# Altium schematic symbol library TI Power Management DC-DC Controller (External Switch).SchLib: 349 symbols (part 17 of 26)
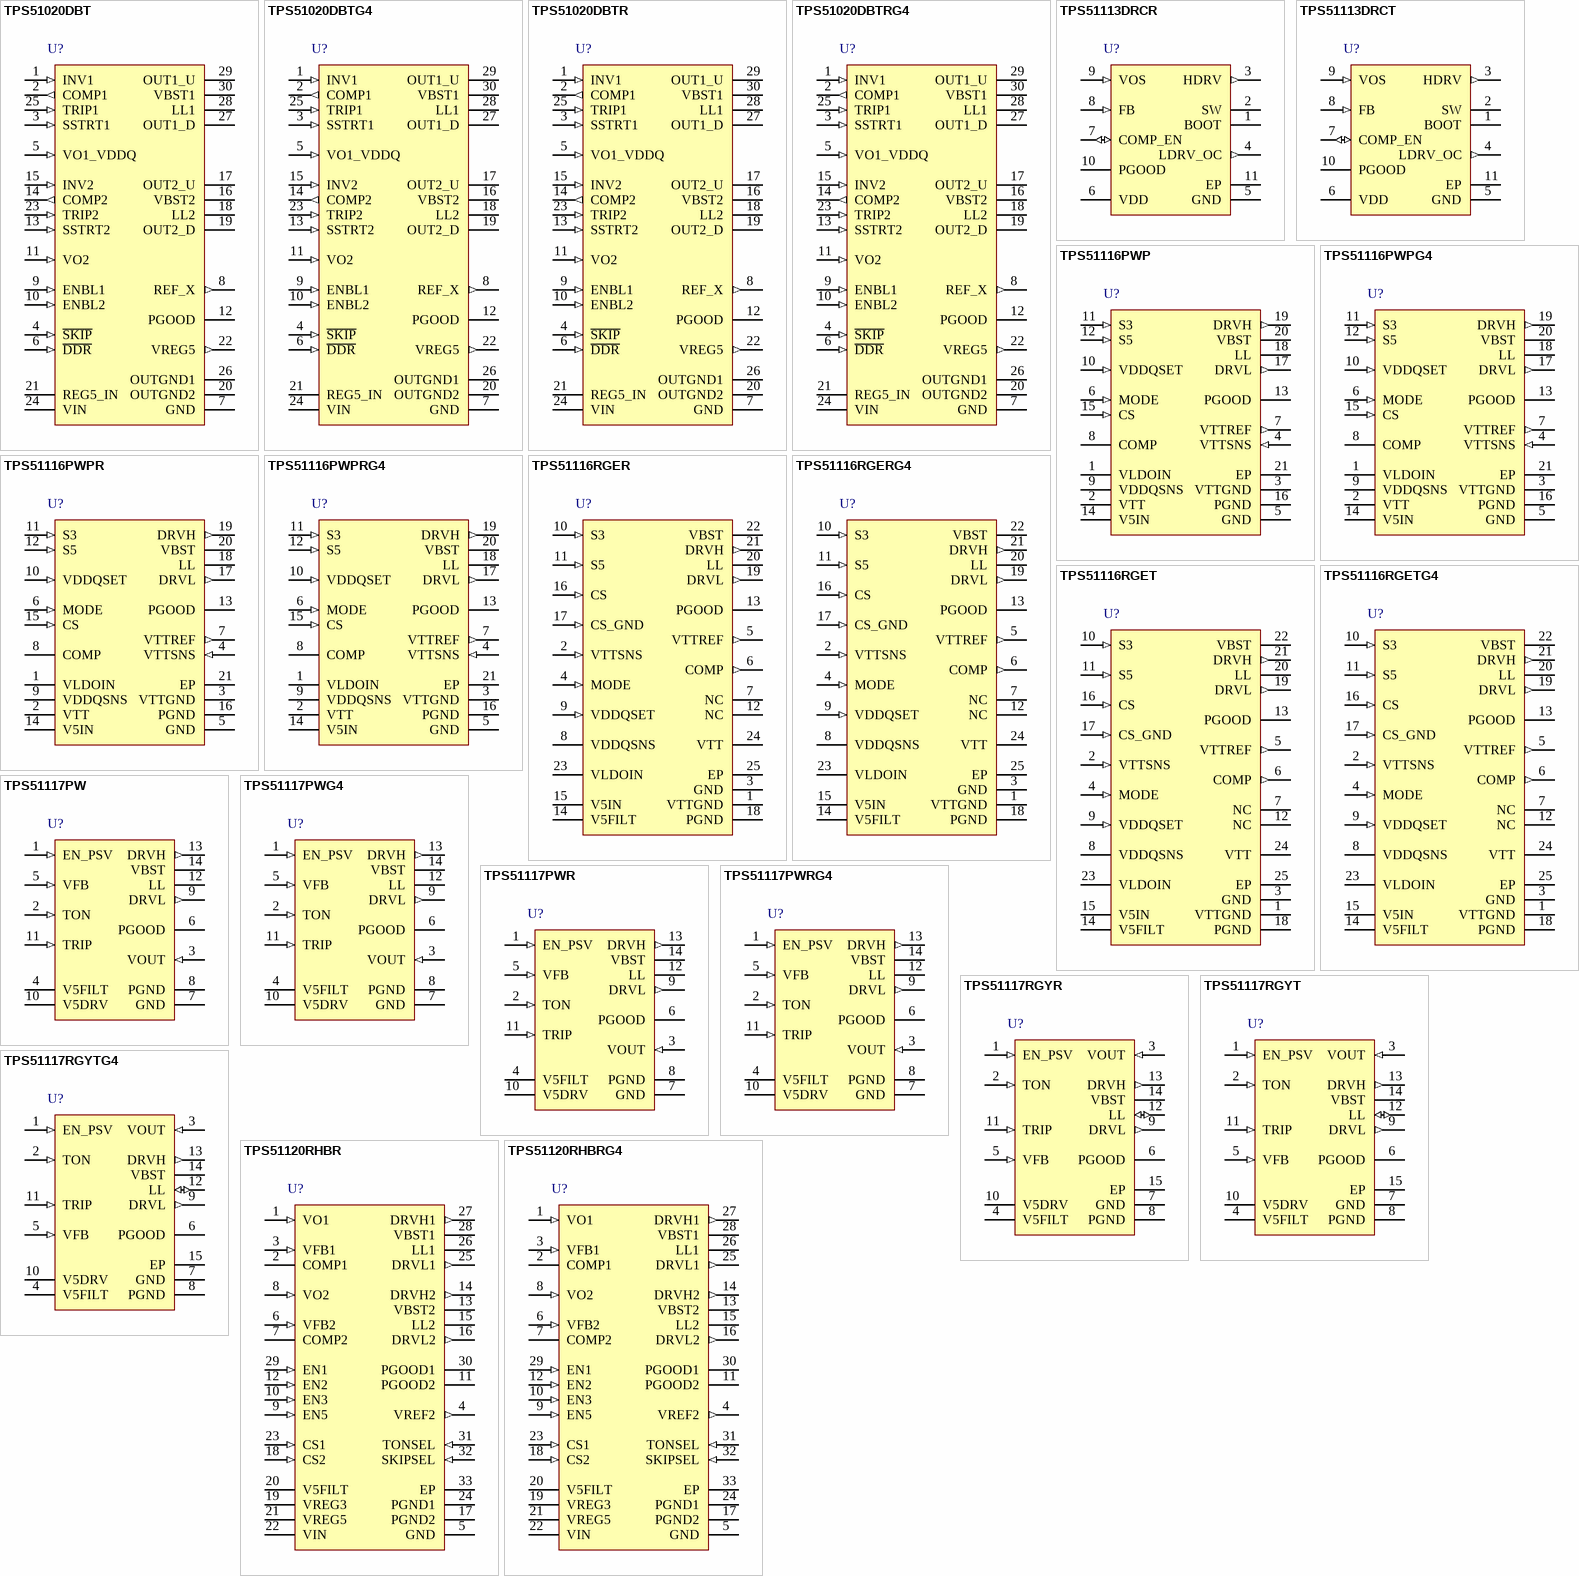
[diagram p30: symbols TPS51020DBT to TPS51120RHBRG4]

## TPS51117PWG4
designator U?
1.8 to 28 V Input Synchronous Step Down Controller with DCAP™ Mode, Optimized for Light Load Efficiency, 95 % Duty Cycle (Max), -40 to 85 degC, 14-pin TSSOP (PW), Green (RoHS & no Sb/Br); Manufacturer: Texas Instruments; PartNumber: TPS51117PWG4; Duty Cycle(Max)(%): 95; Iout(Max)(A): 10; Regulated Outputs(#): 1; SubFamily: Multiple-Output Switching Controller; Switching Frequency(Max)(kHz): 550; Synchronous Rectification: TRUE; Topology: Buck, D-CAP Mode"; Vin(Max)(V): 28; Vin(Min)(V): 1.8; Vout(Max)(V): 5.5; Vout(Min)(V): 0.76; DatasheetVersion: SLVS631B; PackageVersion: revG, Feb-2011; PackageReference: PW14; PackageDescription: 14-Pin Thin Small Outline Package 0.65 mm Pitch; Supplier 1: Digi-Key; Supplier Part Number 1: TPS51117PWG4-ND; Eco-Plan: Green (RoHS & no Sb/Br); Mounting Technology: Surface Mount; Code_JEDEC: MO-153; ComponentLink1Description: Datasheet; ComponentLink1URL: http://www.ti.com/general/docs/lit/getliterature.tsp?genericPartNumber=TPS51117&fileType=pdf; ComponentLink2Description: Package Specification; ComponentLink2URL: http://www.ti.com/litv/pdf/mpds177g
footprint PW14_N (TSOP, 14-Leads, Body 5x4.4mm, Pitch 0.65mm, IPC Medium Density)
footprint PW14_L (TSOP, 14-Leads, Body 5x4.4mm, Pitch 0.65mm, IPC High Density)
footprint PW14_M (TSOP, 14-Leads, Body 5x4.4mm, Pitch 0.65mm, IPC Low Density)
pins: 1 EN_PSV (in) "Enable/power save pin. Connect to ground to disable SMPS. Connect to 3.3 V or 5 V to turn on SMPS andactivate skip mode. Float to turn on SMPS but disable skip mode (forced continuous conduction mode).", 2 TON (in) "On-time / frequency adjustment pin. Connect to LL with 100-k ohm to 600-k ohm resistor.", 3 VOUT (in) "Connect to SMPS output. This terminal serves two functions: output voltage monitor for on-time adjustment, and input for the output discharge switch.", 4 V5FILT (power) "5-V Power supply input for all the control circuitry except gate drivers. Supply 5-V ramp rate should be 17 mV/us or less and Tj < 85degreesC to secure safe start-up of the internal reference circuit. Apply RC filter (See Datasheet)", 5 VFB (in) "SMPS voltage feedback input. Connect the resistor divider here for adjustable output.", 6 PGOOD (oc) "Power-good window comparator, open-drain, output. Pull up to 5-V rail with a pull-up resistor. Current capability is 7.5 mA.", 7 GND (power) "Signal ground pin.", 8 PGND (power) "Ground return for rectifying NFET gate driver. Also cathode of overcurrent protection and source node of the output discharge switch.", 9 DRVL (out) "Rectifying (low-side) NFET gate driver output. Source 5 ohm, sink 1.5 ohm PGND referenced driver. Drive voltage is V5DRV voltage.", 10 V5DRV (power) "5-V Power supply input for FET gate drivers. Internally connected to VBST by a PN diode. Connect 1 uF or more between this pin and PGND to support instantaneous current for gate drivers.", 11 TRIP (in) "Overcurrent trip point set input. Connect resistor from this pin to signal ground to set threshold for both overcurrent and negative overcurrent limit.", 12 LL (power) "High-side NFET gate driver return. Also serves as anode of overcurrent comparator.", 13 DRVH (out) "High-side NFET gate driver output. Source 5 ohm, sink 1.5 ohm LL-node referenced driver. Drive voltage corresponds to VBST to LL voltage.", 14 VBST (power) "Supply input for high-side NFET gate driver (boost terminal). Connect capacitor from this pin to LL-node. An internal PN diode is connected between V5DRV to this pin. Designer can add external schottky diode if forward drop (See Datasheet)"

## TPS51117PWR
designator U?
1.8 to 28 V Input Synchronous Step Down Controller with DCAP™ Mode, Optimized for Light Load Efficiency, 95 % Duty Cycle (Max), -40 to 85 degC, 14-pin TSSOP (PW), Green (RoHS & no Sb/Br); Manufacturer: Texas Instruments; PartNumber: TPS51117PWR; Duty Cycle(Max)(%): 95; Iout(Max)(A): 10; Regulated Outputs(#): 1; SubFamily: Multiple-Output Switching Controller; Switching Frequency(Max)(kHz): 550; Synchronous Rectification: TRUE; Topology: Buck, D-CAP Mode"; Vin(Max)(V): 28; Vin(Min)(V): 1.8; Vout(Max)(V): 5.5; Vout(Min)(V): 0.76; DatasheetVersion: SLVS631B; PackageVersion: revG, Feb-2011; PackageReference: PW14; PackageDescription: 14-Pin Thin Small Outline Package 0.65 mm Pitch; Supplier 1: Digi-Key; Supplier Part Number 1: 296-26974-2-ND; Eco-Plan: Green (RoHS & no Sb/Br); Mounting Technology: Surface Mount; Code_JEDEC: MO-153; ComponentLink1Description: Datasheet; ComponentLink1URL: http://www.ti.com/general/docs/lit/getliterature.tsp?genericPartNumber=TPS51117&fileType=pdf; ComponentLink2Description: Package Specification; ComponentLink2URL: http://www.ti.com/litv/pdf/mpds177g
footprint PW14_N (TSOP, 14-Leads, Body 5x4.4mm, Pitch 0.65mm, IPC Medium Density)
footprint PW14_L (TSOP, 14-Leads, Body 5x4.4mm, Pitch 0.65mm, IPC High Density)
footprint PW14_M (TSOP, 14-Leads, Body 5x4.4mm, Pitch 0.65mm, IPC Low Density)
pins: 1 EN_PSV (in) "Enable/power save pin. Connect to ground to disable SMPS. Connect to 3.3 V or 5 V to turn on SMPS andactivate skip mode. Float to turn on SMPS but disable skip mode (forced continuous conduction mode).", 2 TON (in) "On-time / frequency adjustment pin. Connect to LL with 100-k ohm to 600-k ohm resistor.", 3 VOUT (in) "Connect to SMPS output. This terminal serves two functions: output voltage monitor for on-time adjustment, and input for the output discharge switch.", 4 V5FILT (power) "5-V Power supply input for all the control circuitry except gate drivers. Supply 5-V ramp rate should be 17 mV/us or less and Tj < 85degreesC to secure safe start-up of the internal reference circuit. Apply RC filter (See Datasheet)", 5 VFB (in) "SMPS voltage feedback input. Connect the resistor divider here for adjustable output.", 6 PGOOD (oc) "Power-good window comparator, open-drain, output. Pull up to 5-V rail with a pull-up resistor. Current capability is 7.5 mA.", 7 GND (power) "Signal ground pin.", 8 PGND (power) "Ground return for rectifying NFET gate driver. Also cathode of overcurrent protection and source node of the output discharge switch.", 9 DRVL (out) "Rectifying (low-side) NFET gate driver output. Source 5 ohm, sink 1.5 ohm PGND referenced driver. Drive voltage is V5DRV voltage.", 10 V5DRV (power) "5-V Power supply input for FET gate drivers. Internally connected to VBST by a PN diode. Connect 1 uF or more between this pin and PGND to support instantaneous current for gate drivers.", 11 TRIP (in) "Overcurrent trip point set input. Connect resistor from this pin to signal ground to set threshold for both overcurrent and negative overcurrent limit.", 12 LL (power) "High-side NFET gate driver return. Also serves as anode of overcurrent comparator.", 13 DRVH (out) "High-side NFET gate driver output. Source 5 ohm, sink 1.5 ohm LL-node referenced driver. Drive voltage corresponds to VBST to LL voltage.", 14 VBST (power) "Supply input for high-side NFET gate driver (boost terminal). Connect capacitor from this pin to LL-node. An internal PN diode is connected between V5DRV to this pin. Designer can add external schottky diode if forward drop (See Datasheet)"

## TPS51117PWRG4
designator U?
1.8 to 28 V Input Synchronous Step Down Controller with DCAP™ Mode, Optimized for Light Load Efficiency, 95 % Duty Cycle (Max), -40 to 85 degC, 14-pin TSSOP (PW), Green (RoHS & no Sb/Br); Manufacturer: Texas Instruments; PartNumber: TPS51117PWRG4; Duty Cycle(Max)(%): 95; Iout(Max)(A): 10; Regulated Outputs(#): 1; SubFamily: Multiple-Output Switching Controller; Switching Frequency(Max)(kHz): 550; Synchronous Rectification: TRUE; Topology: Buck, D-CAP Mode"; Vin(Max)(V): 28; Vin(Min)(V): 1.8; Vout(Max)(V): 5.5; Vout(Min)(V): 0.76; DatasheetVersion: SLVS631B; PackageVersion: revG, Feb-2011; PackageReference: PW14; PackageDescription: 14-Pin Thin Small Outline Package 0.65 mm Pitch; Supplier 1: Digi-Key; Supplier Part Number 1: TPS51117PWRG4-ND; Eco-Plan: Green (RoHS & no Sb/Br); Mounting Technology: Surface Mount; Code_JEDEC: MO-153; ComponentLink1Description: Datasheet; ComponentLink1URL: http://www.ti.com/general/docs/lit/getliterature.tsp?genericPartNumber=TPS51117&fileType=pdf; ComponentLink2Description: Package Specification; ComponentLink2URL: http://www.ti.com/litv/pdf/mpds177g
footprint PW14_N (TSOP, 14-Leads, Body 5x4.4mm, Pitch 0.65mm, IPC Medium Density)
footprint PW14_L (TSOP, 14-Leads, Body 5x4.4mm, Pitch 0.65mm, IPC High Density)
footprint PW14_M (TSOP, 14-Leads, Body 5x4.4mm, Pitch 0.65mm, IPC Low Density)
pins: 1 EN_PSV (in) "Enable/power save pin. Connect to ground to disable SMPS. Connect to 3.3 V or 5 V to turn on SMPS andactivate skip mode. Float to turn on SMPS but disable skip mode (forced continuous conduction mode).", 2 TON (in) "On-time / frequency adjustment pin. Connect to LL with 100-k ohm to 600-k ohm resistor.", 3 VOUT (in) "Connect to SMPS output. This terminal serves two functions: output voltage monitor for on-time adjustment, and input for the output discharge switch.", 4 V5FILT (power) "5-V Power supply input for all the control circuitry except gate drivers. Supply 5-V ramp rate should be 17 mV/us or less and Tj < 85degreesC to secure safe start-up of the internal reference circuit. Apply RC filter (See Datasheet)", 5 VFB (in) "SMPS voltage feedback input. Connect the resistor divider here for adjustable output.", 6 PGOOD (oc) "Power-good window comparator, open-drain, output. Pull up to 5-V rail with a pull-up resistor. Current capability is 7.5 mA.", 7 GND (power) "Signal ground pin.", 8 PGND (power) "Ground return for rectifying NFET gate driver. Also cathode of overcurrent protection and source node of the output discharge switch.", 9 DRVL (out) "Rectifying (low-side) NFET gate driver output. Source 5 ohm, sink 1.5 ohm PGND referenced driver. Drive voltage is V5DRV voltage.", 10 V5DRV (power) "5-V Power supply input for FET gate drivers. Internally connected to VBST by a PN diode. Connect 1 uF or more between this pin and PGND to support instantaneous current for gate drivers.", 11 TRIP (in) "Overcurrent trip point set input. Connect resistor from this pin to signal ground to set threshold for both overcurrent and negative overcurrent limit.", 12 LL (power) "High-side NFET gate driver return. Also serves as anode of overcurrent comparator.", 13 DRVH (out) "High-side NFET gate driver output. Source 5 ohm, sink 1.5 ohm LL-node referenced driver. Drive voltage corresponds to VBST to LL voltage.", 14 VBST (power) "Supply input for high-side NFET gate driver (boost terminal). Connect capacitor from this pin to LL-node. An internal PN diode is connected between V5DRV to this pin. Designer can add external schottky diode if forward drop (See Datasheet)"

## TPS51117RGYR
designator U?
1.8 to 28 V Input Synchronous Step Down Controller with DCAP™ Mode, Optimized for Light Load Efficiency, 95 % Duty Cycle (Max), -40 to 85 degC, 14-pin VQFN (RGY), Green (RoHS & no Sb/Br); Manufacturer: Texas Instruments; PartNumber: TPS51117RGYR; Duty Cycle(Max)(%): 95; Iout(Max)(A): 10; Regulated Outputs(#): 1; SubFamily: Multiple-Output Switching Controller; Switching Frequency(Max)(kHz): 550; Synchronous Rectification: TRUE; Topology: Buck, D-CAP Mode"; Vin(Max)(V): 28; Vin(Min)(V): 1.8; Vout(Max)(V): 5.5; Vout(Min)(V): 0.76; DatasheetVersion: SLVS631B; PackageVersion: revI, Jun-2011; PackageReference: RGY14-2050X2050TP; PackageDescription: 14-Leads Plastic Quad Flatpack No-Lead, 3.5 x 3.5 x 0.9 mm Body, 0.5 mm Pitch; Supplier 1: Digi-Key; Supplier Part Number 1: 296-19889-2-ND; Eco-Plan: Green (RoHS & no Sb/Br); Mounting Technology: Surface Mount; Code_JEDEC: MO-241-BA; ComponentLink1Description: Datasheet; ComponentLink1URL: http://www.ti.com/general/docs/lit/getliterature.tsp?genericPartNumber=TPS51117&fileType=pdf; ComponentLink2Description: Package Specification; ComponentLink2URL: http://www.ti.com/litv/pdf/mpds177g
footprint RGY14-2050X2050TP (QFN, 14-Leads, Body 3.5x3.5mm, Pitch 0.5mm, Thermal Pad 2.05x2.05mm, TI Recommended)
pins: 1 EN_PSV (in) "Enable/power save pin. Connect to ground to disable SMPS. Connect to 3.3 V or 5 V to turn on SMPS and activate skip mode. Float to turn on SMPS but disable skip mode (forced continuous conduction mode).", 2 TON (in) "On-time / frequency adjustment pin. Connect to LL with 100-k ohm to 600-k ohm resistor.", 3 VOUT (in) "Connect to SMPS output. This terminal serves two functions: output voltage monitor for on-time adjustment, and input for the output discharge switch.", 4 V5FILT (power) "5-V Power supply input for all the control circuitry except gate drivers. Supply 5-V ramp rate should be 17 mV/us or less and Tj < 85degreesC to secure safe start-up of the internal reference circuit. Apply RC filter (See Datasheet)", 5 VFB (in) "SMPS voltage feedback input. Connect the resistor divider here for adjustable output.", 6 PGOOD (oc) "Power-good window comparator, open-drain, output. Pull up to 5-V rail with a pull-up resistor. Current capability is 7.5 mA.", 7 GND (power) "Signal ground pin.", 8 PGND (power) "Ground return for rectifying NFET gate driver. Also cathode of overcurrent protection and source node of the output discharge switch.", 9 DRVL (out) "Rectifying (low-side) NFET gate driver output. Source 5 ohm, sink 1.5 ohm PGND referenced driver. Drive voltage is V5DRV voltage.", 10 V5DRV (power) "5-V Power supply input for FET gate drivers. Internally connected to VBST by a PN diode. Connect 1 uF or more between this pin and PGND to support instantaneous current for gate drivers.", 11 TRIP (in) "Overcurrent trip point set input. Connect resistor from this pin to signal ground to set threshold for both overcurrent and negative overcurrent limit.", 12 LL (io) "High-side NFET gate driver return. Also serves as anode of overcurrent comparator.", 13 DRVH (out) "High-side NFET gate driver output. Source 5 ohm, sink 1.5 ohm LL-node referenced driver. Drive voltage corresponds to VBST to LL voltage.", 14 VBST (power) "Supply input for high-side NFET gate driver (boost terminal). Connect capacitor from this pin to LL-node. An internal PN diode is connected between V5DRV to this pin. Designer can add external schottky diode if forward drop (See Datasheet)", 15 EP "Exposed Thermal Pad."

## TPS51117RGYT
designator U?
1.8 to 28 V Input Synchronous Step Down Controller with DCAP™ Mode, Optimized for Light Load Efficiency, 95 % Duty Cycle (Max), -40 to 85 degC, 14-pin VQFN (RGY), Green (RoHS & no Sb/Br); Manufacturer: Texas Instruments; PartNumber: TPS51117RGYT; Duty Cycle(Max)(%): 95; Iout(Max)(A): 10; Regulated Outputs(#): 1; SubFamily: Multiple-Output Switching Controller; Switching Frequency(Max)(kHz): 550; Synchronous Rectification: TRUE; Topology: Buck, D-CAP Mode"; Vin(Max)(V): 28; Vin(Min)(V): 1.8; Vout(Max)(V): 5.5; Vout(Min)(V): 0.76; DatasheetVersion: SLVS631B; PackageVersion: revI, Jun-2011; PackageReference: RGY14-2050X2050TP; PackageDescription: 14-Leads Plastic Quad Flatpack No-Lead, 3.5 x 3.5 x 0.9 mm Body, 0.5 mm Pitch; Supplier 1: Digi-Key; Supplier Part Number 1: TPS51117RGYT-ND; Eco-Plan: Green (RoHS & no Sb/Br); Mounting Technology: Surface Mount; Code_JEDEC: MO-241-BA; ComponentLink1Description: Datasheet; ComponentLink1URL: http://www.ti.com/general/docs/lit/getliterature.tsp?genericPartNumber=TPS51117&fileType=pdf; ComponentLink2Description: Package Specification; ComponentLink2URL: http://www.ti.com/litv/pdf/mpds177g
footprint RGY14-2050X2050TP (QFN, 14-Leads, Body 3.5x3.5mm, Pitch 0.5mm, Thermal Pad 2.05x2.05mm, TI Recommended)
pins: 1 EN_PSV (in) "Enable/power save pin. Connect to ground to disable SMPS. Connect to 3.3 V or 5 V to turn on SMPS and activate skip mode. Float to turn on SMPS but disable skip mode (forced continuous conduction mode).", 2 TON (in) "On-time / frequency adjustment pin. Connect to LL with 100-k ohm to 600-k ohm resistor.", 3 VOUT (in) "Connect to SMPS output. This terminal serves two functions: output voltage monitor for on-time adjustment, and input for the output discharge switch.", 4 V5FILT (power) "5-V Power supply input for all the control circuitry except gate drivers. Supply 5-V ramp rate should be 17 mV/us or less and Tj < 85degreesC to secure safe start-up of the internal reference circuit. Apply RC filter (See Datasheet)", 5 VFB (in) "SMPS voltage feedback input. Connect the resistor divider here for adjustable output.", 6 PGOOD (oc) "Power-good window comparator, open-drain, output. Pull up to 5-V rail with a pull-up resistor. Current capability is 7.5 mA.", 7 GND (power) "Signal ground pin.", 8 PGND (power) "Ground return for rectifying NFET gate driver. Also cathode of overcurrent protection and source node of the output discharge switch.", 9 DRVL (out) "Rectifying (low-side) NFET gate driver output. Source 5 ohm, sink 1.5 ohm PGND referenced driver. Drive voltage is V5DRV voltage.", 10 V5DRV (power) "5-V Power supply input for FET gate drivers. Internally connected to VBST by a PN diode. Connect 1 uF or more between this pin and PGND to support instantaneous current for gate drivers.", 11 TRIP (in) "Overcurrent trip point set input. Connect resistor from this pin to signal ground to set threshold for both overcurrent and negative overcurrent limit.", 12 LL (io) "High-side NFET gate driver return. Also serves as anode of overcurrent comparator.", 13 DRVH (out) "High-side NFET gate driver output. Source 5 ohm, sink 1.5 ohm LL-node referenced driver. Drive voltage corresponds to VBST to LL voltage.", 14 VBST (power) "Supply input for high-side NFET gate driver (boost terminal). Connect capacitor from this pin to LL-node. An internal PN diode is connected between V5DRV to this pin. Designer can add external schottky diode if forward drop (See Datasheet)", 15 EP "Exposed Thermal Pad."

## TPS51117RGYTG4
designator U?
1.8 to 28 V Input Synchronous Step Down Controller with DCAP™ Mode, Optimized for Light Load Efficiency, 95 % Duty Cycle (Max), -40 to 85 degC, 14-pin VQFN (RGY), Green (RoHS & no Sb/Br); Manufacturer: Texas Instruments; PartNumber: TPS51117RGYTG4; Duty Cycle(Max)(%): 95; Iout(Max)(A): 10; Regulated Outputs(#): 1; SubFamily: Multiple-Output Switching Controller; Switching Frequency(Max)(kHz): 550; Synchronous Rectification: TRUE; Topology: Buck, D-CAP Mode"; Vin(Max)(V): 28; Vin(Min)(V): 1.8; Vout(Max)(V): 5.5; Vout(Min)(V): 0.76; DatasheetVersion: SLVS631B; PackageVersion: revI, Jun-2011; PackageReference: RGY14-2050X2050TP; PackageDescription: 14-Leads Plastic Quad Flatpack No-Lead, 3.5 x 3.5 x 0.9 mm Body, 0.5 mm Pitch; Supplier 1: Digi-Key; Supplier Part Number 1: TPS51117RGYTG4-ND; Eco-Plan: Green (RoHS & no Sb/Br); Mounting Technology: Surface Mount; Code_JEDEC: MO-241-BA; ComponentLink1Description: Datasheet; ComponentLink1URL: http://www.ti.com/general/docs/lit/getliterature.tsp?genericPartNumber=TPS51117&fileType=pdf; ComponentLink2Description: Package Specification; ComponentLink2URL: http://www.ti.com/litv/pdf/mpds177g
footprint RGY14-2050X2050TP (QFN, 14-Leads, Body 3.5x3.5mm, Pitch 0.5mm, Thermal Pad 2.05x2.05mm, TI Recommended)
pins: 1 EN_PSV (in) "Enable/power save pin. Connect to ground to disable SMPS. Connect to 3.3 V or 5 V to turn on SMPS and activate skip mode. Float to turn on SMPS but disable skip mode (forced continuous conduction mode).", 2 TON (in) "On-time / frequency adjustment pin. Connect to LL with 100-k ohm to 600-k ohm resistor.", 3 VOUT (in) "Connect to SMPS output. This terminal serves two functions: output voltage monitor for on-time adjustment, and input for the output discharge switch.", 4 V5FILT (power) "5-V Power supply input for all the control circuitry except gate drivers. Supply 5-V ramp rate should be 17 mV/us or less and Tj < 85degreesC to secure safe start-up of the internal reference circuit. Apply RC filter (See Datasheet)", 5 VFB (in) "SMPS voltage feedback input. Connect the resistor divider here for adjustable output.", 6 PGOOD (oc) "Power-good window comparator, open-drain, output. Pull up to 5-V rail with a pull-up resistor. Current capability is 7.5 mA.", 7 GND (power) "Signal ground pin.", 8 PGND (power) "Ground return for rectifying NFET gate driver. Also cathode of overcurrent protection and source node of the output discharge switch.", 9 DRVL (out) "Rectifying (low-side) NFET gate driver output. Source 5 ohm, sink 1.5 ohm PGND referenced driver. Drive voltage is V5DRV voltage.", 10 V5DRV (power) "5-V Power supply input for FET gate drivers. Internally connected to VBST by a PN diode. Connect 1 uF or more between this pin and PGND to support instantaneous current for gate drivers.", 11 TRIP (in) "Overcurrent trip point set input. Connect resistor from this pin to signal ground to set threshold for both overcurrent and negative overcurrent limit.", 12 LL (io) "High-side NFET gate driver return. Also serves as anode of overcurrent comparator.", 13 DRVH (out) "High-side NFET gate driver output. Source 5 ohm, sink 1.5 ohm LL-node referenced driver. Drive voltage corresponds to VBST to LL voltage.", 14 VBST (power) "Supply input for high-side NFET gate driver (boost terminal). Connect capacitor from this pin to LL-node. An internal PN diode is connected between V5DRV to this pin. Designer can add external schottky diode if forward drop (See Datasheet)", 15 EP "Exposed Thermal Pad."

## TPS51120RHBR
designator U?
Dual Current Mode, Synch Step-Down Controller with 100 mA Standby Reg for Notebook System Power, 88 % Duty Cycle, 4.5 to 28 V, -40 to 85 degC, 32-pin QFN (RHB), Green (RoHS & no Sb/Br); Manufacturer: Texas Instruments; PartNumber: TPS51120RHBR; Duty Cycle(Max)(%): 88; Iout(Max)(A): 20; Regulated Outputs(#): 2; SubFamily: Multiple-Output Switching Controller; Switching Frequency(Max)(kHz): 580; Synchronous Rectification: TRUE; Topology: Buck, D-CAP Mode"; Vin(Max)(V): 28; Vin(Min)(V): 4.5; Vout(Max)(V): 5.5; Vout(Min)(V): 1.05; DatasheetVersion: SLUS670B; PackageVersion: revD, Jun-2011; PackageReference: RHB32-3450X3450TP; PackageDescription: 32-Pin Plastic Quad Flat No-Lead, 5 x 5 mm Body, 0.5 mm Pitch, 3.45 x 3.45 mm Exposed Pad; Supplier 1: Digi-Key; Supplier Part Number 1: 296-26975-2-ND; Eco-Plan: Green (RoHS & no Sb/Br); Iout2(A): 20; Vout2(Max)(V): 5.5; Vout2(Min)(V): 1.05; Mounting Technology: Surface Mount; Code_JEDEC: MO-220; ComponentLink1Description: Datasheet; ComponentLink1URL: http://www.ti.com/general/docs/lit/getliterature.tsp?genericPartNumber=TPS51120&fileType=pdf; ComponentLink2Description: Package Specification; ComponentLink2URL: http://www.ti.com/litv/pdf/mpqf130c
footprint RHB32-3450X3450TP (QFN, 32-Leads, Body 5x5mm, Pitch 0.5mm, Thermal Pad 3.45x3.45mm, TI Recommended)
pins: 1 VO1 (in) "These terminals serve four functions: on-time adjustment, output discharge, VREG5, VREG3 switchover input and feedback inputs for 5-V, 3.3-V fixed-output option. Connect to positive terminal of respective switch mode power (See Datasheet)", 2 COMP1 "Loop compensation pin (error amplifier output). Connect RC from this pin to GND for proper loop compensation with current mode operation. Tie this pin to V5FILT for D-CAP mode operation.", 3 VFB1 (in) "SMPS feedback input. Connect the feedback resistor divider here for adjustable outputs. Tie these pins to V5FILT or for fixed output option. Refer to Table 2", 4 VREF2 (out) "2-V reference output. Capable of +/-50-uA, +/-2% over 0 - 85degreesC temperature range. Bypass to GND by 1-nF ceramic capacitor. Tie this pin to GND disables both SMPS.", 5 GND (power) "Signal ground pin.", 6 VFB2 (in) "SMPS feedback input. Connect the feedback resistor divider here for adjustable outputs. Tie these pins to V5FILT or for fixed output option. Refer to Table 2", 7 COMP2 "Loop compensation pin (error amplifier output). Connect RC from this pin to GND for proper loop compensation with current mode operation. Tie this pin to V5FILT for D-CAP mode operation.", 8 VO2 (in) "These terminals serve four functions: on-time adjustment, output discharge, VREG5, VREG3 switchover input and feedback inputs for 5-V, 3.3-V fixed-output option. Connect to positive terminal of respective switch mode power (See Datasheet)", 9 EN5 (in) "VREG5, 5-V low dropout linear regulator enable pin. Connect to GND to disable. Float or tie to VBAT to turn on the regulator.", 10 EN3 (in) "VREG3, 3.3-V low dropout linear regulator enable pin. Connect to GND to disable. Float or tie to enabled VREG5 to turn on the regulator.", 11 PGOOD2 (oc) "Power-good window comparator open drain output. Pull up with resistor to V5FILT or appropriate signal voltage. Current capability is 5-mA. PGOOD goes high 1-ms after VFB is within specified limits. Power bad (terminal goes (See Datasheet)", 12 EN2 (in) "Channel 1 and Channel 2 SMPS enable pins. Connect to 5 V to turn on with internal 3-ms soft-start. Slower soft-start is possible by applying an external capacitor from each of these pins to ground to program ramp rate.", 13 VBST2 (power) "Supply Input for High-side MOSFET Driver. Connect capacitor from this pin to respective LL terminal. An internal PN diode is connected between VREG5 to each of these pins. User can add external schottky diode if forward drop (See Datasheet)", 14 DRVH2 (out) "High-side MOSFET gate drive output. Source 3.5 Ohm, sink 1.5 Ohm, LL-node referenced floating driver. Drive voltage corresponds to VBST to LL voltage.", 15 LL2 (power) "High-side MOSFET gate driver return. Also serve as current sense comparator input (-) for RDS(on) sensing, and input voltage monitor for on-time control circuitry", 16 DRVL2 (out) "Rectifying (low-side) MOSFET gate drive output. Source 3.5 Ohm, sink 1.5 Ohm, PGND referenced driver. Drive voltage is VREG5 voltage.", 17 PGND2 (power) "Ground return for rectifying MOSFET gate driver. Connect PGND2, PGND1 and GND strongly together near the source of the rectifying FET or the GND connection of the current sense resistor. Also serve as current sense (See Datasheet)", 18 CS2 (in) "Current sense comparator input (-) for resistor sensing scheme. Or, overcurrent trip setting input for RDS(on) current sense scheme if connected to V5FILT through the threshold setting resistor.", 19 VREG3 (power) "3.3-V, 100-uA low dropout linear regulator output. Bypass to PGND by 10-mF ceramic capacitor. Runs from VIN supply. Shuts off with EN3. Switches over to VO2 when 3.1 V or above is provided.", 20 V5FILT (power) "5-V supply input for the entire control circuit. Should be provided from VREG5 via RC filter.", 21 VREG5 (power) "5-V, 100-mA low dropout linear regulator output. Bypass to PGND by 10-uF ceramic capacitor. Runs from VIN supply. Internally connected to VBST and DRVL. Shuts off with EN5. Switches over to VO1 when 4.8 V or above is (See Datasheet)", 22 VIN (power) "Supply Input for 5-V and 3.3-V linear regulator. Typically connected to VBAT.", 23 CS1 (in) "Current sense comparator input (-) for resistor sensing scheme. Or, overcurrent trip setting input for RDS(on) current sense scheme if connected to V5FILT through the threshold setting resistor.", 24 PGND1 (power) "Ground return for rectifying MOSFET gate driver. Connect PGND2, PGND1 and GND strongly together near the source of the rectifying FET or the GND connection of the current sense resistor. Also serve as current sense (See Datasheet)", 25 DRVL1 (out) "Rectifying (low-side) MOSFET gate drive output. Source 3.5 Ohm, sink 1.5 Ohm, PGND referenced driver. Drive voltage is VREG5 voltage.", 26 LL1 (power) "High-side MOSFET gate driver return. Also serve as current sense comparator input (-) for RDS(on) sensing, and input voltage monitor for on-time control circuitry", 27 DRVH1 (out) "High-side MOSFET gate drive output. Source 3.5 Ohm, sink 1.5 Ohm, LL-node referenced floating driver. Drive voltage corresponds to VBST to LL voltage.", 28 VBST1 (power) "Supply Input for High-side MOSFET Driver. Connect capacitor from this pin to respective LL terminal. An internal PN diode is connected between VREG5 to each of these pins. User can add external schottky diode if forward drop (See Datasheet)", 29 EN1 (in) "Channel 1 and Channel 2 SMPS enable pins. Connect to 5 V to turn on with internal 3-ms soft-start. Slower soft-start is possible by applying an external capacitor from each of these pins to ground to program ramp rate.", 30 PGOOD1 (oc) "Power-good window comparator open drain output. Pull up with resistor to V5FILT or appropriate signal voltage. Current capability is 5-mA. PGOOD goes high 1-ms after VFB is within specified limits. Power bad (terminal goes (See Datasheet)", 31 TONSEL (in) "On-time selection pin. Refer to Table 1 and Table 2.", 32 SKIPSEL (in) "Skip and fault mode selection pin. Refer to Table 2", 33 EP (power) "EXPOSED THERMAL PAD"

## TPS51120RHBRG4
designator U?
Dual Current Mode, Synch Step-Down Controller with 100 mA Standby Reg for Notebook System Power, 88 % Duty Cycle, 4.5 to 28 V, -40 to 85 degC, 32-pin QFN (RHB), Green (RoHS & no Sb/Br); Manufacturer: Texas Instruments; PartNumber: TPS51120RHBRG4; Duty Cycle(Max)(%): 88; Iout(Max)(A): 20; Regulated Outputs(#): 2; SubFamily: Multiple-Output Switching Controller; Switching Frequency(Max)(kHz): 580; Synchronous Rectification: TRUE; Topology: Buck, D-CAP Mode"; Vin(Max)(V): 28; Vin(Min)(V): 4.5; Vout(Max)(V): 5.5; Vout(Min)(V): 1.05; DatasheetVersion: SLUS670B; PackageVersion: revD, Jun-2011; PackageReference: RHB32-3450X3450TP; PackageDescription: 32-Pin Plastic Quad Flat No-Lead, 5 x 5 mm Body, 0.5 mm Pitch, 3.45 x 3.45 mm Exposed Pad; Supplier 1: Digi-Key; Supplier Part Number 1: TPS51120RHBRG4-ND; Eco-Plan: Green (RoHS & no Sb/Br); Iout2(A): 20; Vout2(Max)(V): 5.5; Vout2(Min)(V): 1.05; Mounting Technology: Surface Mount; Code_JEDEC: MO-220; ComponentLink1Description: Datasheet; ComponentLink1URL: http://www.ti.com/general/docs/lit/getliterature.tsp?genericPartNumber=TPS51120&fileType=pdf; ComponentLink2Description: Package Specification; ComponentLink2URL: http://www.ti.com/litv/pdf/mpqf130c
footprint RHB32-3450X3450TP (QFN, 32-Leads, Body 5x5mm, Pitch 0.5mm, Thermal Pad 3.45x3.45mm, TI Recommended)
pins: 1 VO1 (in) "These terminals serve four functions: on-time adjustment, output discharge, VREG5, VREG3 switchover input and feedback inputs for 5-V, 3.3-V fixed-output option. Connect to positive terminal of respective switch mode power (See Datasheet)", 2 COMP1 "Loop compensation pin (error amplifier output). Connect RC from this pin to GND for proper loop compensation with current mode operation. Tie this pin to V5FILT for D-CAP mode operation.", 3 VFB1 (in) "SMPS feedback input. Connect the feedback resistor divider here for adjustable outputs. Tie these pins to V5FILT or for fixed output option. Refer to Table 2", 4 VREF2 (out) "2-V reference output. Capable of +/-50-uA, +/-2% over 0 - 85degreesC temperature range. Bypass to GND by 1-nF ceramic capacitor. Tie this pin to GND disables both SMPS.", 5 GND (power) "Signal ground pin.", 6 VFB2 (in) "SMPS feedback input. Connect the feedback resistor divider here for adjustable outputs. Tie these pins to V5FILT or for fixed output option. Refer to Table 2", 7 COMP2 "Loop compensation pin (error amplifier output). Connect RC from this pin to GND for proper loop compensation with current mode operation. Tie this pin to V5FILT for D-CAP mode operation.", 8 VO2 (in) "These terminals serve four functions: on-time adjustment, output discharge, VREG5, VREG3 switchover input and feedback inputs for 5-V, 3.3-V fixed-output option. Connect to positive terminal of respective switch mode power (See Datasheet)", 9 EN5 (in) "VREG5, 5-V low dropout linear regulator enable pin. Connect to GND to disable. Float or tie to VBAT to turn on the regulator.", 10 EN3 (in) "VREG3, 3.3-V low dropout linear regulator enable pin. Connect to GND to disable. Float or tie to enabled VREG5 to turn on the regulator.", 11 PGOOD2 (oc) "Power-good window comparator open drain output. Pull up with resistor to V5FILT or appropriate signal voltage. Current capability is 5-mA. PGOOD goes high 1-ms after VFB is within specified limits. Power bad (terminal goes (See Datasheet)", 12 EN2 (in) "Channel 1 and Channel 2 SMPS enable pins. Connect to 5 V to turn on with internal 3-ms soft-start. Slower soft-start is possible by applying an external capacitor from each of these pins to ground to program ramp rate.", 13 VBST2 (power) "Supply Input for High-side MOSFET Driver. Connect capacitor from this pin to respective LL terminal. An internal PN diode is connected between VREG5 to each of these pins. User can add external schottky diode if forward drop (See Datasheet)", 14 DRVH2 (out) "High-side MOSFET gate drive output. Source 3.5 Ohm, sink 1.5 Ohm, LL-node referenced floating driver. Drive voltage corresponds to VBST to LL voltage.", 15 LL2 (power) "High-side MOSFET gate driver return. Also serve as current sense comparator input (-) for RDS(on) sensing, and input voltage monitor for on-time control circuitry", 16 DRVL2 (out) "Rectifying (low-side) MOSFET gate drive output. Source 3.5 Ohm, sink 1.5 Ohm, PGND referenced driver. Drive voltage is VREG5 voltage.", 17 PGND2 (power) "Ground return for rectifying MOSFET gate driver. Connect PGND2, PGND1 and GND strongly together near the source of the rectifying FET or the GND connection of the current sense resistor. Also serve as current sense (See Datasheet)", 18 CS2 (in) "Current sense comparator input (-) for resistor sensing scheme. Or, overcurrent trip setting input for RDS(on) current sense scheme if connected to V5FILT through the threshold setting resistor.", 19 VREG3 (power) "3.3-V, 100-uA low dropout linear regulator output. Bypass to PGND by 10-mF ceramic capacitor. Runs from VIN supply. Shuts off with EN3. Switches over to VO2 when 3.1 V or above is provided.", 20 V5FILT (power) "5-V supply input for the entire control circuit. Should be provided from VREG5 via RC filter.", 21 VREG5 (power) "5-V, 100-mA low dropout linear regulator output. Bypass to PGND by 10-uF ceramic capacitor. Runs from VIN supply. Internally connected to VBST and DRVL. Shuts off with EN5. Switches over to VO1 when 4.8 V or above is (See Datasheet)", 22 VIN (power) "Supply Input for 5-V and 3.3-V linear regulator. Typically connected to VBAT.", 23 CS1 (in) "Current sense comparator input (-) for resistor sensing scheme. Or, overcurrent trip setting input for RDS(on) current sense scheme if connected to V5FILT through the threshold setting resistor.", 24 PGND1 (power) "Ground return for rectifying MOSFET gate driver. Connect PGND2, PGND1 and GND strongly together near the source of the rectifying FET or the GND connection of the current sense resistor. Also serve as current sense (See Datasheet)", 25 DRVL1 (out) "Rectifying (low-side) MOSFET gate drive output. Source 3.5 Ohm, sink 1.5 Ohm, PGND referenced driver. Drive voltage is VREG5 voltage.", 26 LL1 (power) "High-side MOSFET gate driver return. Also serve as current sense comparator input (-) for RDS(on) sensing, and input voltage monitor for on-time control circuitry", 27 DRVH1 (out) "High-side MOSFET gate drive output. Source 3.5 Ohm, sink 1.5 Ohm, LL-node referenced floating driver. Drive voltage corresponds to VBST to LL voltage.", 28 VBST1 (power) "Supply Input for High-side MOSFET Driver. Connect capacitor from this pin to respective LL terminal. An internal PN diode is connected between VREG5 to each of these pins. User can add external schottky diode if forward drop (See Datasheet)", 29 EN1 (in) "Channel 1 and Channel 2 SMPS enable pins. Connect to 5 V to turn on with internal 3-ms soft-start. Slower soft-start is possible by applying an external capacitor from each of these pins to ground to program ramp rate.", 30 PGOOD1 (oc) "Power-good window comparator open drain output. Pull up with resistor to V5FILT or appropriate signal voltage. Current capability is 5-mA. PGOOD goes high 1-ms after VFB is within specified limits. Power bad (terminal goes (See Datasheet)", 31 TONSEL (in) "On-time selection pin. Refer to Table 1 and Table 2.", 32 SKIPSEL (in) "Skip and fault mode selection pin. Refer to Table 2", 33 EP (power) "EXPOSED THERMAL PAD"

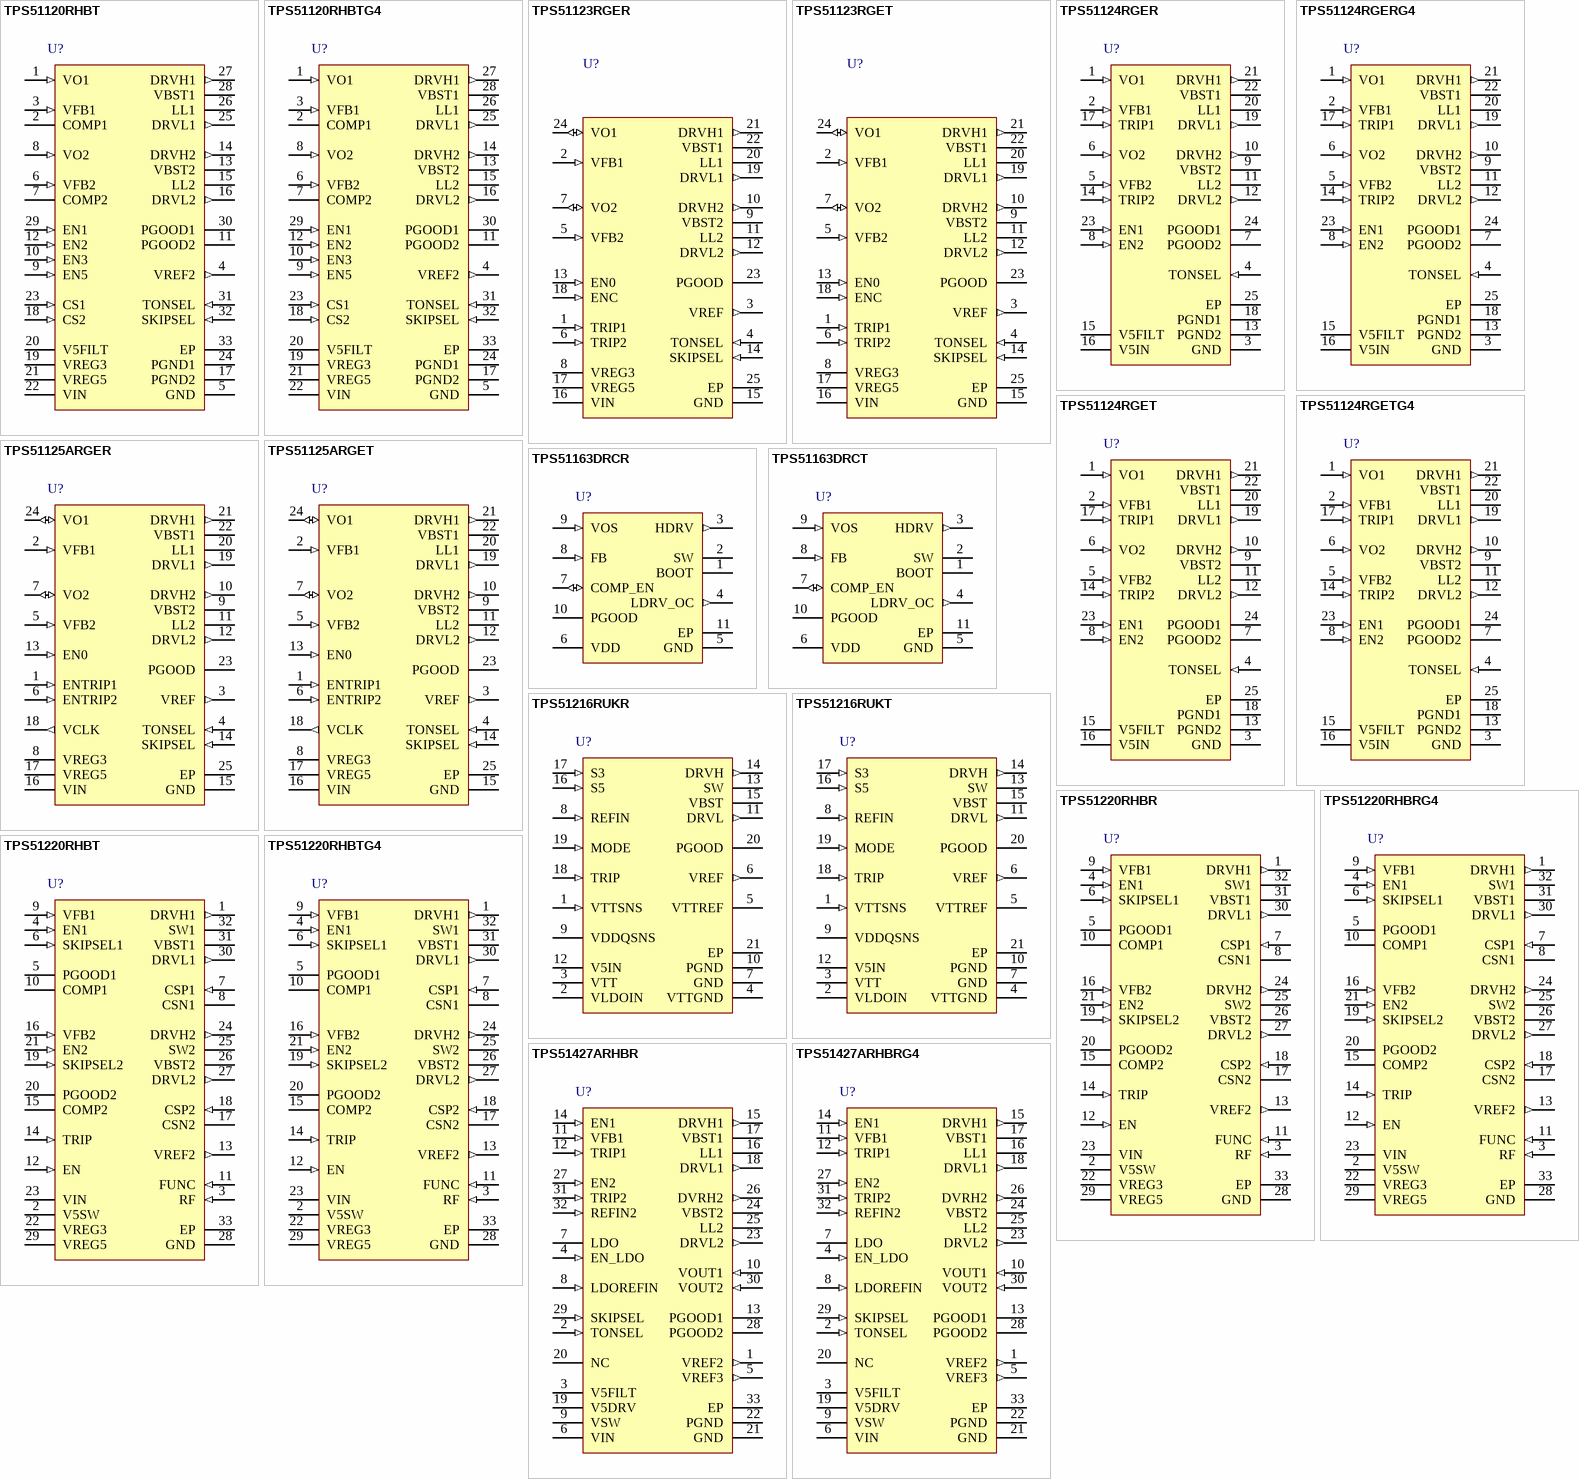
[diagram p10: symbols TPS51120RHBT to TPS51427ARHBRG4]

## TPS51120RHBT
designator U?
Dual Current Mode, Synch Step-Down Controller with 100 mA Standby Reg for Notebook System Power, 88 % Duty Cycle, 4.5 to 28 V, -40 to 85 degC, 32-pin QFN (RHB), Green (RoHS & no Sb/Br); Manufacturer: Texas Instruments; PartNumber: TPS51120RHBT; Duty Cycle(Max)(%): 88; Iout(Max)(A): 20; Regulated Outputs(#): 2; SubFamily: Multiple-Output Switching Controller; Switching Frequency(Max)(kHz): 580; Synchronous Rectification: TRUE; Topology: Buck, D-CAP Mode"; Vin(Max)(V): 28; Vin(Min)(V): 4.5; Vout(Max)(V): 5.5; Vout(Min)(V): 1.05; DatasheetVersion: SLUS670B; PackageVersion: revD, Jun-2011; PackageReference: RHB32-3450X3450TP; PackageDescription: 32-Pin Plastic Quad Flat No-Lead, 5 x 5 mm Body, 0.5 mm Pitch, 3.45 x 3.45 mm Exposed Pad; Supplier 1: Digi-Key; Supplier Part Number 1: 296-18341-2-ND; Eco-Plan: Green (RoHS & no Sb/Br); Iout2(A): 20; Vout2(Max)(V): 5.5; Vout2(Min)(V): 1.05; Mounting Technology: Surface Mount; Code_JEDEC: MO-220; ComponentLink1Description: Datasheet; ComponentLink1URL: http://www.ti.com/general/docs/lit/getliterature.tsp?genericPartNumber=TPS51120&fileType=pdf; ComponentLink2Description: Package Specification; ComponentLink2URL: http://www.ti.com/litv/pdf/mpqf130c
footprint RHB32-3450X3450TP (QFN, 32-Leads, Body 5x5mm, Pitch 0.5mm, Thermal Pad 3.45x3.45mm, TI Recommended)
pins: 1 VO1 (in) "These terminals serve four functions: on-time adjustment, output discharge, VREG5, VREG3 switchover input and feedback inputs for 5-V, 3.3-V fixed-output option. Connect to positive terminal of respective switch mode power (See Datasheet)", 2 COMP1 "Loop compensation pin (error amplifier output). Connect RC from this pin to GND for proper loop compensation with current mode operation. Tie this pin to V5FILT for D-CAP mode operation.", 3 VFB1 (in) "SMPS feedback input. Connect the feedback resistor divider here for adjustable outputs. Tie these pins to V5FILT or for fixed output option. Refer to Table 2", 4 VREF2 (out) "2-V reference output. Capable of +/-50-uA, +/-2% over 0 - 85degreesC temperature range. Bypass to GND by 1-nF ceramic capacitor. Tie this pin to GND disables both SMPS.", 5 GND (power) "Signal ground pin.", 6 VFB2 (in) "SMPS feedback input. Connect the feedback resistor divider here for adjustable outputs. Tie these pins to V5FILT or for fixed output option. Refer to Table 2", 7 COMP2 "Loop compensation pin (error amplifier output). Connect RC from this pin to GND for proper loop compensation with current mode operation. Tie this pin to V5FILT for D-CAP mode operation.", 8 VO2 (in) "These terminals serve four functions: on-time adjustment, output discharge, VREG5, VREG3 switchover input and feedback inputs for 5-V, 3.3-V fixed-output option. Connect to positive terminal of respective switch mode power (See Datasheet)", 9 EN5 (in) "VREG5, 5-V low dropout linear regulator enable pin. Connect to GND to disable. Float or tie to VBAT to turn on the regulator.", 10 EN3 (in) "VREG3, 3.3-V low dropout linear regulator enable pin. Connect to GND to disable. Float or tie to enabled VREG5 to turn on the regulator.", 11 PGOOD2 (oc) "Power-good window comparator open drain output. Pull up with resistor to V5FILT or appropriate signal voltage. Current capability is 5-mA. PGOOD goes high 1-ms after VFB is within specified limits. Power bad (terminal goes (See Datasheet)", 12 EN2 (in) "Channel 1 and Channel 2 SMPS enable pins. Connect to 5 V to turn on with internal 3-ms soft-start. Slower soft-start is possible by applying an external capacitor from each of these pins to ground to program ramp rate.", 13 VBST2 (power) "Supply Input for High-side MOSFET Driver. Connect capacitor from this pin to respective LL terminal. An internal PN diode is connected between VREG5 to each of these pins. User can add external schottky diode if forward drop (See Datasheet)", 14 DRVH2 (out) "High-side MOSFET gate drive output. Source 3.5 Ohm, sink 1.5 Ohm, LL-node referenced floating driver. Drive voltage corresponds to VBST to LL voltage.", 15 LL2 (power) "High-side MOSFET gate driver return. Also serve as current sense comparator input (-) for RDS(on) sensing, and input voltage monitor for on-time control circuitry", 16 DRVL2 (out) "Rectifying (low-side) MOSFET gate drive output. Source 3.5 Ohm, sink 1.5 Ohm, PGND referenced driver. Drive voltage is VREG5 voltage.", 17 PGND2 (power) "Ground return for rectifying MOSFET gate driver. Connect PGND2, PGND1 and GND strongly together near the source of the rectifying FET or the GND connection of the current sense resistor. Also serve as current sense (See Datasheet)", 18 CS2 (in) "Current sense comparator input (-) for resistor sensing scheme. Or, overcurrent trip setting input for RDS(on) current sense scheme if connected to V5FILT through the threshold setting resistor.", 19 VREG3 (power) "3.3-V, 100-uA low dropout linear regulator output. Bypass to PGND by 10-mF ceramic capacitor. Runs from VIN supply. Shuts off with EN3. Switches over to VO2 when 3.1 V or above is provided.", 20 V5FILT (power) "5-V supply input for the entire control circuit. Should be provided from VREG5 via RC filter.", 21 VREG5 (power) "5-V, 100-mA low dropout linear regulator output. Bypass to PGND by 10-uF ceramic capacitor. Runs from VIN supply. Internally connected to VBST and DRVL. Shuts off with EN5. Switches over to VO1 when 4.8 V or above is (See Datasheet)", 22 VIN (power) "Supply Input for 5-V and 3.3-V linear regulator. Typically connected to VBAT.", 23 CS1 (in) "Current sense comparator input (-) for resistor sensing scheme. Or, overcurrent trip setting input for RDS(on) current sense scheme if connected to V5FILT through the threshold setting resistor.", 24 PGND1 (power) "Ground return for rectifying MOSFET gate driver. Connect PGND2, PGND1 and GND strongly together near the source of the rectifying FET or the GND connection of the current sense resistor. Also serve as current sense (See Datasheet)", 25 DRVL1 (out) "Rectifying (low-side) MOSFET gate drive output. Source 3.5 Ohm, sink 1.5 Ohm, PGND referenced driver. Drive voltage is VREG5 voltage.", 26 LL1 (power) "High-side MOSFET gate driver return. Also serve as current sense comparator input (-) for RDS(on) sensing, and input voltage monitor for on-time control circuitry", 27 DRVH1 (out) "High-side MOSFET gate drive output. Source 3.5 Ohm, sink 1.5 Ohm, LL-node referenced floating driver. Drive voltage corresponds to VBST to LL voltage.", 28 VBST1 (power) "Supply Input for High-side MOSFET Driver. Connect capacitor from this pin to respective LL terminal. An internal PN diode is connected between VREG5 to each of these pins. User can add external schottky diode if forward drop (See Datasheet)", 29 EN1 (in) "Channel 1 and Channel 2 SMPS enable pins. Connect to 5 V to turn on with internal 3-ms soft-start. Slower soft-start is possible by applying an external capacitor from each of these pins to ground to program ramp rate.", 30 PGOOD1 (oc) "Power-good window comparator open drain output. Pull up with resistor to V5FILT or appropriate signal voltage. Current capability is 5-mA. PGOOD goes high 1-ms after VFB is within specified limits. Power bad (terminal goes (See Datasheet)", 31 TONSEL (in) "On-time selection pin. Refer to Table 1 and Table 2.", 32 SKIPSEL (in) "Skip and fault mode selection pin. Refer to Table 2", 33 EP (power) "EXPOSED THERMAL PAD"